# EAGLE library part 3X3_HEADER (library Tristan_Robitaille's_Library)
Standard 0.1" male header in a 3x3 configuration
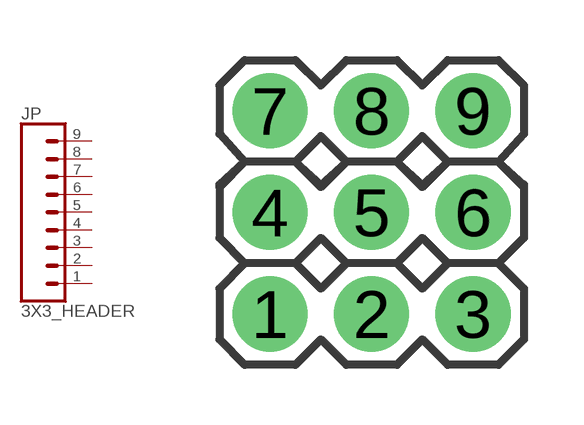
[diagram p32: symbol with the pads of 3X03; footprint 3X03]

Designator prefix JP

## 3X3_HEADER  [3X03]
1  1  pas
2  2  pas
3  3  pas
4  4  pas
5  5  pas
6  6  pas
7  7  pas
8  8  pas
9  9  pas

## Footprint 3X03 (pad centres in mm)
Plated Through Hole - 3 Pin Specifications: Pin count: 9 Pin pitch:0.1" Example device(s): CONN_03
drill 1.016 pad 1.88: 1 0,0; 2 2.54,0; 3 5.08,0; 4 0,2.54; 5 2.54,2.54; 6 5.08,2.54; 7 0,5.08; 8 2.54,5.08; 9 5.08,5.08